# EAGLE library part 4003EG120 (library XILINX)
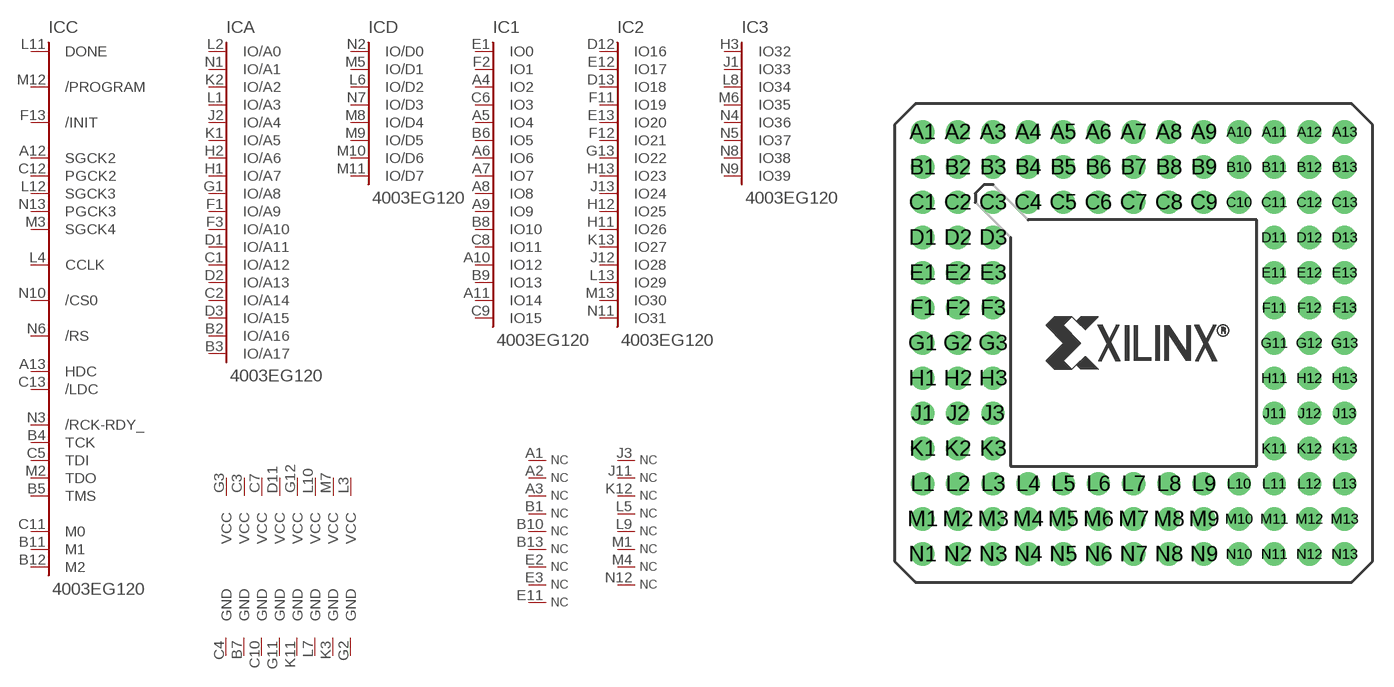
[diagram p16: symbol with the pads of PGA120; footprint PGA120]

Designator prefix IC; gates C=4003-C84 A=XC4-A17 D=XC4-D 1=XC4-IO16 2=XC4-IO32 V1=VCC V2=VCC V3=VCC V4=VCC V5=VCC V6=VCC V7=VCC V8=VCC G1=GND G2=GND G3=GND G4=GND G5=GND G6=GND G7=GND G8=GND N1=NC N2=NC N3=NC N4=NC N5=NC N6=NC N7=NC N8=NC N9=NC N10=NC N11=NC N12=NC N13=NC N14=NC N15=NC N16=NC N17=NC 3=XC4-IO39

## 4003EG120  [PGA120]
A1  N1:NC  nc
A2  N2:NC  nc
A3  N3:NC  nc
A4  1:IO2
A5  1:IO4
A6  1:IO6
A7  1:IO7
A8  1:IO8
A9  1:IO9
A10  1:IO12
A11  1:IO14
A12  C:SGCK2
A13  C:HDC
B1  N4:NC  nc
B2  A:IO/A16
B3  A:IO/A17
B4  C:TCK
B5  C:TMS
B6  1:IO5
B7  G2:GND  pwr
B8  1:IO10
B9  1:IO13
B10  N5:NC  nc
B11  C:M1  out
B12  C:M2  in
B13  N6:NC  nc
C1  A:IO/A12
C2  A:IO/A14
C3  V2:VCC  pwr
C4  G1:GND  pwr
C5  C:TDI
C6  1:IO3
C7  V3:VCC  pwr
C8  1:IO11
C9  1:IO15
C10  G3:GND  pwr
C11  C:M0  in
C12  C:PGCK2
C13  C:/LDC
D1  A:IO/A11
D2  A:IO/A13
D3  A:IO/A15
D11  V4:VCC  pwr
D12  2:IO16
D13  2:IO18
E1  1:IO0
E2  N7:NC  nc
E3  N8:NC  nc
E11  N9:NC  nc
E12  2:IO17
E13  2:IO20
F1  A:IO/A9
F2  1:IO1
F3  A:IO/A10
F11  2:IO19
F12  2:IO21
F13  C:/INIT
G1  A:IO/A8
G2  G8:GND  pwr
G3  V1:VCC  pwr
G11  G4:GND  pwr
G12  V5:VCC  pwr
G13  2:IO22
H1  A:IO/A7
H2  A:IO/A6
H3  3:IO32
H11  2:IO26
H12  2:IO25
H13  2:IO23
J1  3:IO33
J2  A:IO/A4
J3  N10:NC  nc
J11  N11:NC  nc
J12  2:IO28
J13  2:IO24
K1  A:IO/A5
K2  A:IO/A2
K3  G7:GND  pwr
K11  G5:GND  pwr
K12  N12:NC  nc
K13  2:IO27
L1  A:IO/A3
L2  A:IO/A0
L3  V8:VCC  pwr
L4  C:CCLK
L5  N13:NC  nc
L6  D:IO/D2
L7  G6:GND  pwr
L8  3:IO34
L9  N14:NC  nc
L10  V6:VCC  pwr
L11  C:DONE
L12  C:SGCK3
L13  2:IO29
M1  N15:NC  nc
M2  C:TDO
M3  C:SGCK4
M4  N16:NC  nc
M5  D:IO/D1
M6  3:IO35
M7  V7:VCC  pwr
M8  D:IO/D4
M9  D:IO/D5
M10  D:IO/D6
M11  D:IO/D7
M12  C:/PROGRAM
M13  2:IO30
N1  A:IO/A1
N2  D:IO/D0
N3  C:/RCK-RDY_
N4  3:IO36
N5  3:IO37
N6  C:/RS
N7  D:IO/D3
N8  3:IO38
N9  3:IO39
N10  C:/CS0
N11  2:IO31
N12  N17:NC  nc
N13  C:PGCK3

## Footprint PGA120 (pad centres in mm)
drill 0.889 pad 1.676: A1 -15.24,15.24; A2 -12.7,15.24; A3 -10.16,15.24; A4 -7.62,15.24; A5 -5.08,15.24; A6 -2.54,15.24; A7 0,15.24; A8 2.54,15.24; A9 5.08,15.24; A10 7.62,15.24; A11 10.16,15.24; A12 12.7,15.24; A13 15.24,15.24; B1 -15.24,12.7; B2 -12.7,12.7; B3 -10.16,12.7; B4 -7.62,12.7; B5 -5.08,12.7; B6 -2.54,12.7; B7 0,12.7; B8 2.54,12.7; B9 5.08,12.7; B10 7.62,12.7; B11 10.16,12.7; B12 12.7,12.7; B13 15.24,12.7; C1 -15.24,10.16; C2 -12.7,10.16; C3 -10.16,10.16; C4 -7.62,10.16; C5 -5.08,10.16; C6 -2.54,10.16; C7 0,10.16; C8 2.54,10.16; C9 5.08,10.16; C10 7.62,10.16; C11 10.16,10.16; C12 12.7,10.16; C13 15.24,10.16; D1 -15.24,7.62; D2 -12.7,7.62; D3 -10.16,7.62; D11 10.16,7.62; D12 12.7,7.62; D13 15.24,7.62; E1 -15.24,5.08; E2 -12.7,5.08; E3 -10.16,5.08; E11 10.16,5.08; E12 12.7,5.08; E13 15.24,5.08; F1 -15.24,2.54; F2 -12.7,2.54; F3 -10.16,2.54; F11 10.16,2.54; F12 12.7,2.54; F13 15.24,2.54; G1 -15.24,0; G2 -12.7,0; G3 -10.16,0; G11 10.16,0; G12 12.7,0; G13 15.24,0; H1 -15.24,-2.54; H2 -12.7,-2.54; H3 -10.16,-2.54; H11 10.16,-2.54; H12 12.7,-2.54; H13 15.24,-2.54; J1 -15.24,-5.08; J2 -12.7,-5.08; J3 -10.16,-5.08; J11 10.16,-5.08; J12 12.7,-5.08; J13 15.24,-5.08; K1 -15.24,-7.62; K2 -12.7,-7.62; K3 -10.16,-7.62; K11 10.16,-7.62; K12 12.7,-7.62; K13 15.24,-7.62; L1 -15.24,-10.16; L2 -12.7,-10.16; L3 -10.16,-10.16; L4 -7.62,-10.16; L5 -5.08,-10.16; L6 -2.54,-10.16; L7 0,-10.16; L8 2.54,-10.16; L9 5.08,-10.16; L10 7.62,-10.16; L11 10.16,-10.16; L12 12.7,-10.16; L13 15.24,-10.16; M1 -15.24,-12.7; M2 -12.7,-12.7; M3 -10.16,-12.7; M4 -7.62,-12.7; M5 -5.08,-12.7; M6 -2.54,-12.7; M7 0,-12.7; M8 2.54,-12.7; M9 5.08,-12.7; M10 7.62,-12.7; M11 10.16,-12.7; M12 12.7,-12.7; M13 15.24,-12.7; N1 -15.24,-15.24; N2 -12.7,-15.24; N3 -10.16,-15.24; N4 -7.62,-15.24; N5 -5.08,-15.24; N6 -2.54,-15.24; N7 0,-15.24; N8 2.54,-15.24; N9 5.08,-15.24; N10 7.62,-15.24; N11 10.16,-15.24; N12 12.7,-15.24; N13 15.24,-15.24